# Altium footprint library basic01_resistors.pcblib: 19 footprints (part 1 of 2)
Each footprint in its own frame and in the unit in brackets; x right, y up, seen from the top. Pads: shape width x height; smd on the part's side, far side on the other; paste and mask are expansions set on the pad; w line width, h text height; cw(c..) or ccw(c..) is an arc to the next point about the centre after c.
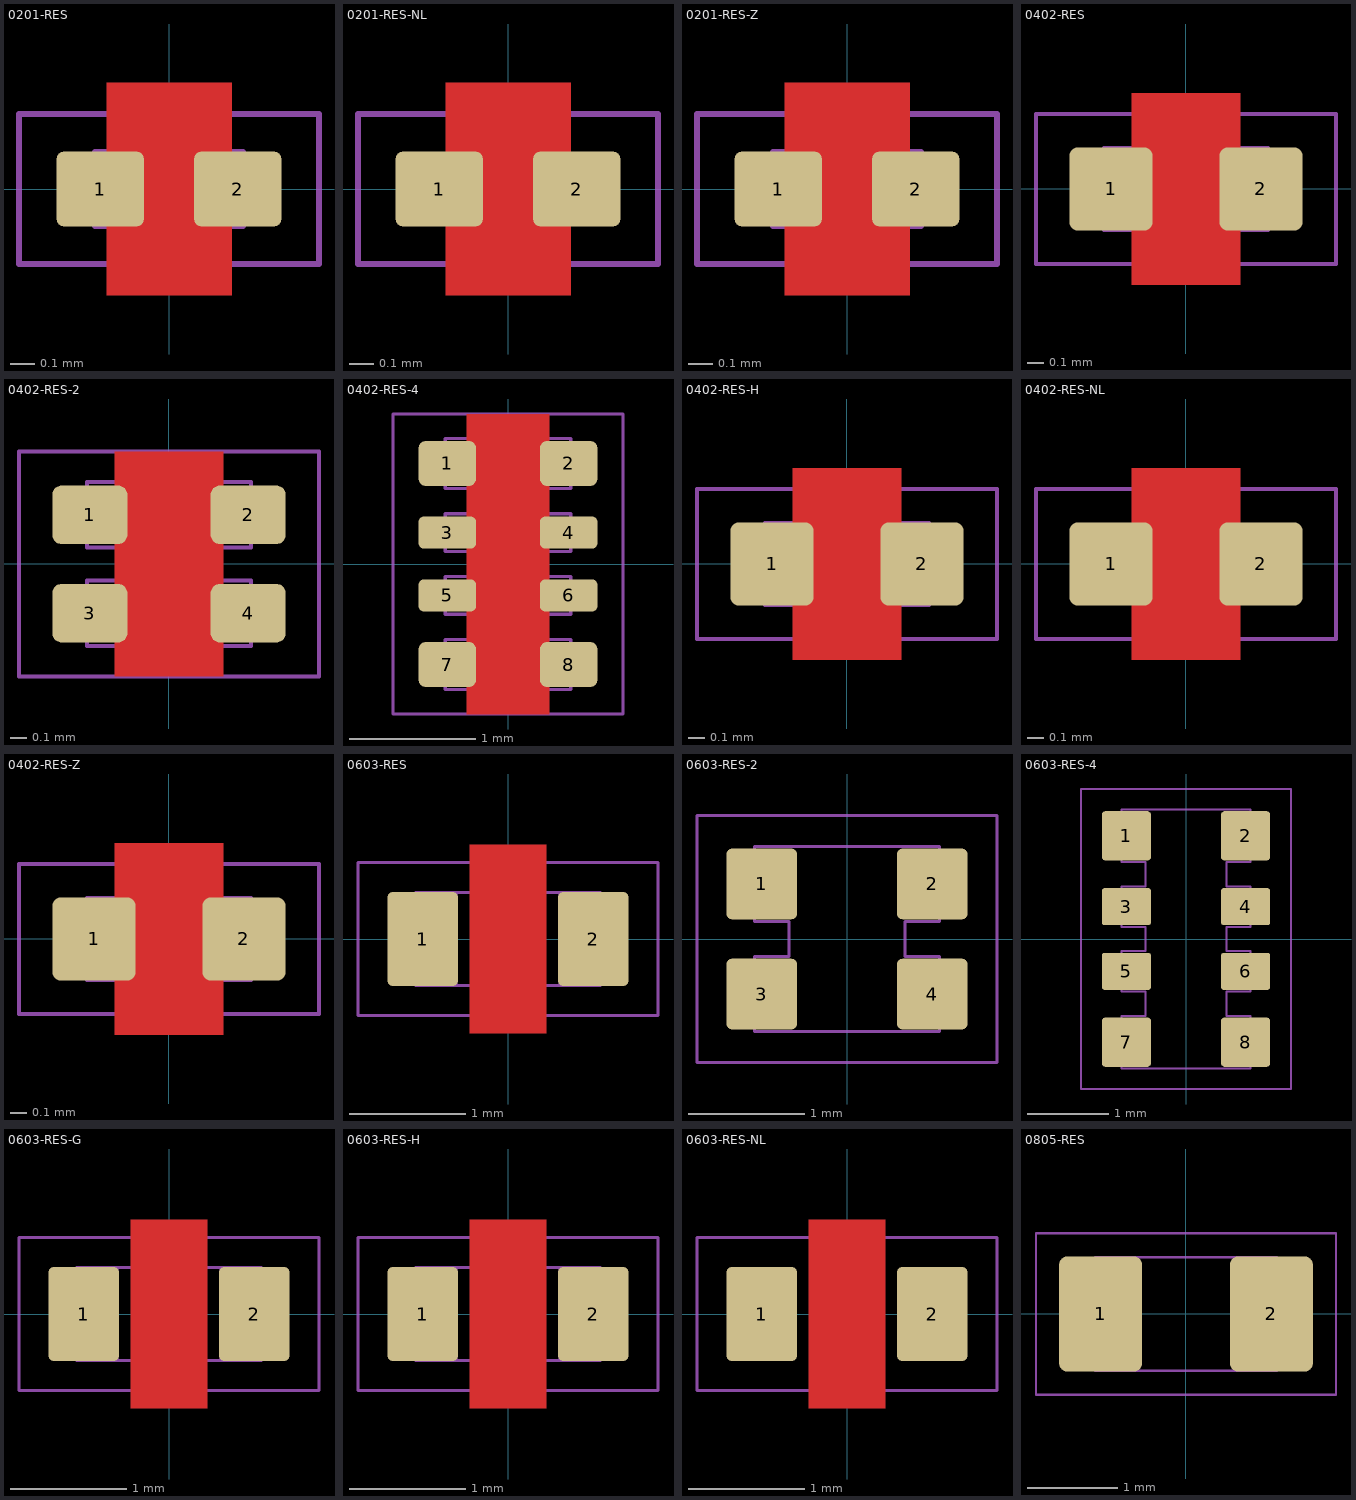
[diagram p0: the footprints below, top view; thin cyan lines are the x and y axes]

## 0201-RES [mil] "Resistor, 0201, 5% / 1%"
pads (2):
  rrect20% 14x12 smd paste+0 mask+2: 1(-11,0) 2(11,0)
Top Layer:
  pour cut-out: -10,-17 -10,17 10,17 10,-17
Top Solder:
  rectangle: -10,-8 10,8
  rectangle: -6,-13 6,13
Mechanical 15:
  lines w1: -24,-12 -24,12 24,12 24,-12 -24,-12
Mechanical 16:
  lines w1: -7.87,-5.91 -7.87,5.91 ; 7.87,-5.91 7.87,5.91 ; -11.81,-5.91 11.81,-5.91 11.81,5.91 -11.81,5.91 -11.81,-5.91
3D body: height 9.1, standoff 0, extent -12,-5 -8,5
3D body: height 8.8, standoff 0.2, extent -11.81,-5.91 11.81,5.91
3D body: height 9, standoff 8.8, extent -11.81,-5.91 11.81,5.91
3D body: height 9.1, standoff 0, extent 8,-5 12,5

## 0201-RES-NL [mil] "Resistor, 0201, NO LOAD"
pads (2):
  rrect20% 14x12 smd paste-20 mask+2: 1(-11,0) 2(11,0)
Top Layer:
  pour cut-out: -10,-17 -10,17 10,17 10,-17
Top Solder:
  rectangle: -10,-8 10,8
  rectangle: -6,-13 6,13
Mechanical 15:
  lines w1: -24,-12 -24,12 24,12 24,-12 -24,-12

## 0201-RES-Z [mil] "Resistor, 0201, 0R"
pads (2):
  rrect20% 14x12 smd paste+0 mask+2: 1(-11,0) 2(11,0)
Top Layer:
  pour cut-out: -10,-17 -10,17 10,17 10,-17
Top Solder:
  rectangle: -6,-13 6,13
  rectangle: -10,-8 10,8
Mechanical 15:
  lines w1: -24,-12 24,-12 24,12 -24,12 -24,-12
Mechanical 16:
  lines w1: -7.87,-5.91 -7.87,5.91 ; 7.87,-5.91 7.87,5.91 ; -11.81,-5.91 -11.81,5.91 11.81,5.91 11.81,-5.91 -11.81,-5.91
3D body: height 9.1, standoff 0, extent 8,-5 12,5
3D body: height 9, standoff 8.8, extent -11.81,-5.91 11.81,5.91
3D body: height 8.8, standoff 0.2, extent -11.81,-5.91 11.81,5.91
3D body: height 9.1, standoff 0, extent -12,-5 -8,5

## 0402-RES [mil] "Resistor, 0402, 5%"
pads (2):
  rrect20% 20x20 smd mask+2: 1(-18,0) 2(18,0)
Top Layer:
  pour cut-out: -13,23 13,23 13,-23 -13,-23
Top Solder:
  rectangle: -8,-18 8,18
  rectangle: -16,-12 16,12
Mechanical 15:
  lines w1: -36,-18 36,-18 36,18 -36,18 -36,-18
Mechanical 16:
  lines w1: -11.81,-9.84 -11.81,9.84 ; 11.81,-9.84 11.81,9.84 ; -19.68,-9.84 -19.68,9.84 19.68,9.84 19.68,-9.84 -19.68,-9.84
3D body: height 9.8, standoff 0.2, extent -19.68,-9.84 19.68,9.84
3D body: height 10, standoff 9.8, extent -19.68,-9.84 19.68,9.84
3D body: height 10.1, standoff 0, extent 12,-9 20,9
3D body: height 10.1, standoff 0, extent -20,-9 -12,9

## 0402-RES-2 [mil]
pads (4):
  rrect30% 18x14 smd mask+2: 1(-19,11.81) 2(19,11.81) 3(-19,-11.81) 4(19,-11.81)
Top Layer:
  pour cut-out: -13,27 13,27 13,-27 -13,-27
Top Solder:
  rectangle: -10,-11.81 10,11.81
Mechanical 15:
  lines w1: -36,-27 -36,27 36,27 36,-27 -36,-27
Mechanical 16:
  lines w1: -19.68,-19.69 -19.68,-3.94 -9.84,-3.94 -9.84,3.94 -19.68,3.94 -19.68,19.69 19.68,19.69 19.68,3.94 9.84,3.94 9.84,-3.94 19.68,-3.94 19.68,-19.69 -19.68,-19.69
3D body: height 13.9, standoff 0.1, extent -19.68,-19.69 19.68,19.69
3D body: height 15.2, standoff 13.9, extent -8,-19.69 8,19.69
3D body: height 14.5, standoff 0, extent 7.19,4.81 20.18,18.81
3D body: height 14.5, standoff 0, extent -20.18,4.81 -7.19,18.81
3D body: height 14.5, standoff 0, extent 7.19,-18.81 20.18,-4.81
3D body: height 14.5, standoff 0, extent -20.18,-18.81 -7.19,-4.81

## 0402-RES-4 [mil]
pads (8):
  rrect30% 18x14 smd mask+2: 1(-19,31.5) 2(19,31.5) 7(-19,-31.5) 8(19,-31.5)
  rrect30% 18x10 smd mask+2: 3(-19,9.84) 4(19,9.84) 5(-19,-9.84) 6(19,-9.84)
Top Layer:
  pour cut-out: -13,47 13,47 13,-47 -13,-47
Top Solder:
  rectangle: -10,-16 10,16
Mechanical 15:
  lines w1: -36,-47 -36,47 36,47 36,-47 -36,-47
Mechanical 16:
  lines w1: -19.68,-39.37 -19.68,-23.62 -9.84,-23.62 -9.84,-15.75 -19.68,-15.75 -19.68,-3.94 -9.84,-3.94 -9.84,3.94 -19.68,3.94 -19.68,15.75 -9.84,15.75 -9.84,23.62 -19.68,23.62 -19.68,39.37 19.68,39.37 19.68,23.62 9.84,23.62 9.84,15.75 19.68,15.75 19.68,3.94 9.84,3.94 9.84,-3.94 19.68,-3.94 19.68,-15.75 9.84,-15.75 9.84,-23.62 19.68,-23.62 19.68,-39.37 -19.68,-39.37
3D body: height 14.5, standoff 0, extent 7.19,24.5 20.18,38.5
3D body: height 14.5, standoff 0, extent -20.18,24.5 -7.19,38.5
3D body: height 14.5, standoff 0, extent 7.19,-38.5 20.18,-24.5
3D body: height 14.5, standoff 0, extent -20.18,-38.5 -7.19,-24.5
3D body: height 14.5, standoff 0, extent 7.19,4.84 20.18,14.84
3D body: height 14.5, standoff 0, extent 7.19,-14.84 20.18,-4.84
3D body: height 14.5, standoff 0, extent -20.18,-14.84 -7.19,-4.84
3D body: height 15.2, standoff 13.9, extent -8,-39 8,39
3D body: height 13.9, standoff 0.1, extent -19.68,-39.37 19.68,39.37
3D body: height 14.5, standoff 0, extent -20.18,4.84 -7.19,14.84

## 0402-RES-H [mil] "Resistor, 0402, 1%"
pads (2):
  rrect20% 20x20 smd mask+2: 1(-18,0) 2(18,0)
Top Layer:
  pour cut-out: -13,23 13,23 13,-23 -13,-23
Top Solder:
  rectangle: -16,-12 16,12
  rectangle: -8,-18 8,18
Mechanical 15:
  lines w1: -36,-18 36,-18 36,18 -36,18 -36,-18
Mechanical 16:
  lines w1: -11.81,-9.84 -11.81,9.84 ; 11.81,-9.84 11.81,9.84 ; -19.68,-9.84 -19.68,9.84 19.68,9.84 19.68,-9.84 -19.68,-9.84
3D body: height 9.8, standoff 0.2, extent -19.68,-9.84 19.68,9.84
3D body: height 10, standoff 9.8, extent -19.68,-9.84 19.68,9.84
3D body: height 10.1, standoff 0, extent 12,-9 20,9
3D body: height 10.1, standoff 0, extent -20,-9 -12,9

## 0402-RES-NL [mil] "Resistor, 0402, NO LOAD"
pads (2):
  rrect20% 20x20 smd paste-20 mask+2: 1(-18,0) 2(18,0)
Top Layer:
  pour cut-out: -13,23 13,23 13,-23 -13,-23
Top Solder:
  rectangle: -8,-18 8,18
  rectangle: -16,-12 16,12
Mechanical 15:
  lines w1: -36,-18 36,-18 36,18 -36,18 -36,-18

## 0402-RES-Z [mil] "Resistor, 0402, 0R"
pads (2):
  rrect20% 20x20 smd mask+2: 1(-18,0) 2(18,0)
Top Layer:
  pour cut-out: -13,23 13,23 13,-23 -13,-23
Top Solder:
  rectangle: -8,-18 8,18
  rectangle: -16,-12 16,12
Mechanical 15:
  lines w1: -36,-18 -36,18 36,18 36,-18 -36,-18
Mechanical 16:
  lines w1: -11.81,-9.84 -11.81,9.84 ; 11.81,-9.84 11.81,9.84 ; -19.68,-9.84 19.68,-9.84 19.68,9.84 -19.68,9.84 -19.68,-9.84
3D body: height 10.1, standoff 0, extent -20,-9 -12,9
3D body: height 10.1, standoff 0, extent 12,-9 20,9
3D body: height 10, standoff 9.8, extent -19.68,-9.84 19.68,9.84
3D body: height 9.8, standoff 0.2, extent -19.68,-9.84 19.68,9.84

## 0603-RES [mil] "Resistor, 0603, 5%"
pads (2):
  rrect15% 24x32 smd paste-2 mask+2: 1(-29,0) 2(29,0)
Top Layer:
  pour cut-out: -13,32 13,32 13,-32 -13,-32
Top Solder:
  rectangle: -8,-27 8,27
Mechanical 15:
  lines w1: -51,-26 51,-26 51,26 -51,26 -51,-26
Mechanical 16:
  lines w1: -17.72,-15.75 -17.72,15.75 ; 17.72,-15.75 17.72,15.75 ; -31.5,-15.75 -31.5,15.75 31.5,15.75 31.5,-15.75 -31.5,-15.75
3D body: height 19, standoff 0, extent 18,-15 32,15
3D body: height 17, standoff 0.2, extent -31.5,-15.75 31.5,15.75
3D body: height 18, standoff 17, extent -31.5,-15.75 31.5,15.75
3D body: height 19, standoff 0, extent -32,-15 -18,15

## 0603-RES-2 [mil]
pads (4):
  rrect15% 24x24 smd mask+2: 1(-29,18.7) 2(29,18.7) 3(-29,-18.7) 4(29,-18.7)
Mechanical 15:
  lines w1: -51,-42 51,-42 51,42 -51,42 -51,-42
Mechanical 16:
  lines w1: -31.5,-31.5 31.5,-31.5 31.5,-5.91 19.69,-5.91 19.69,5.91 31.5,5.91 31.5,31.5 -31.5,31.5 -31.5,5.91 -19.69,5.91 -19.69,-5.91 -31.5,-5.91 -31.5,-31.5
3D body: height 21, standoff 0, extent 15.93,6.74 31,30.5
3D body: height 21, standoff 0, extent -31,6.74 -15.93,30.5
3D body: height 21, standoff 0, extent -31,-30.5 -15.93,-6.74
3D body: height 21, standoff 0, extent 15.93,-30.5 31,-6.74
3D body: height 20.5, standoff 20, extent -19.69,-31.5 19.69,31.5
3D body: height 20, standoff 1, extent -19.69,-31.5 19.69,31.5

## 0603-RES-4 [mil]
pads (8):
  rrect15% 24x24 smd mask+2: 1(-29,50.2) 2(29,50.2) 7(-29,-50.2) 8(29,-50.2)
  rrect15% 24x18 smd mask+2: 3(-29,15.75) 4(29,15.75) 5(-29,-15.75) 6(29,-15.75)
Mechanical 15:
  lines w1: -51,-73 -51,73 51,73 51,-73 -51,-73
Mechanical 16:
  lines w1: -31.5,-62.99 -31.5,-37.4 -19.69,-37.4 -19.69,-25.59 -31.5,-25.59 -31.5,-5.91 -19.69,-5.91 -19.69,5.91 -31.5,5.91 -31.5,25.59 -19.69,25.59 -19.69,37.4 -31.5,37.4 -31.5,62.99 31.5,62.99 31.5,37.4 19.69,37.4 19.69,25.59 31.5,25.59 31.5,5.91 19.69,5.91 19.69,-5.91 31.5,-5.91 31.5,-25.59 19.69,-25.59 19.69,-37.4 31.5,-37.4 31.5,-62.99 -31.5,-62.99
3D body: height 20.5, standoff 20, extent -19.68,-62.99 19.68,62.99
3D body: height 20, standoff 1, extent -19.68,-62.99 19.68,62.99
3D body: height 21, standoff 0, extent -31,38.24 -15.93,62
3D body: height 21, standoff 0, extent -30.93,6.74 -15.93,24.74
3D body: height 21, standoff 0, extent -30.93,-24.76 -15.93,-6.76
3D body: height 21, standoff 0, extent 15.93,-24.74 30.93,-6.74
3D body: height 21, standoff 0, extent 15.93,6.76 30.93,24.76
3D body: height 21, standoff 0, extent 15.93,-62 31,-38.24
3D body: height 21, standoff 0, extent -31,-62 -15.93,-38.24
3D body: height 21, standoff 0, extent 15.93,38.24 31,62

## 0603-RES-G [mil] "Resistor, 0603, 1%, Low ppm"
pads (2):
  rrect15% 24x32 smd paste-2 mask+2: 1(-29,0) 2(29,0)
Top Layer:
  pour cut-out: -13,32 13,32 13,-32 -13,-32
Top Solder:
  rectangle: -8,-27 8,27
Mechanical 15:
  lines w1: -51,-26 51,-26 51,26 -51,26 -51,-26
Mechanical 16:
  lines w1: -17.72,-15.75 -17.72,15.75 ; 17.72,-15.75 17.72,15.75 ; -31.5,-15.75 -31.5,15.75 31.5,15.75 31.5,-15.75 -31.5,-15.75
3D body: height 19, standoff 0, extent 18,-15 32,15
3D body: height 17, standoff 0.2, extent -31.5,-15.75 31.5,15.75
3D body: height 18, standoff 17, extent -31.5,-15.75 31.5,15.75
3D body: height 19, standoff 0, extent -32,-15 -18,15

## 0603-RES-H [mil] "Resistor, 0603, 1%"
pads (2):
  rrect15% 24x32 smd paste-2 mask+2: 1(-29,0) 2(29,0)
Top Layer:
  pour cut-out: -13,32 13,32 13,-32 -13,-32
Top Solder:
  rectangle: -8,-27 8,27
Mechanical 15:
  lines w1: -51,-26 51,-26 51,26 -51,26 -51,-26
Mechanical 16:
  lines w1: -17.72,-15.75 -17.72,15.75 ; 17.72,-15.75 17.72,15.75 ; -31.5,-15.75 -31.5,15.75 31.5,15.75 31.5,-15.75 -31.5,-15.75
3D body: height 19, standoff 0, extent 18,-15 32,15
3D body: height 17, standoff 0.2, extent -31.5,-15.75 31.5,15.75
3D body: height 18, standoff 17, extent -31.5,-15.75 31.5,15.75
3D body: height 19, standoff 0, extent -32,-15 -18,15

## 0603-RES-NL [mil] "Resistor, 0603, NO LOAD"
pads (2):
  rrect15% 24x32 smd paste-2 mask+2: 1(-29,0) 2(29,0)
Top Layer:
  pour cut-out: -13,32 13,32 13,-32 -13,-32
Top Solder:
  rectangle: -8,-27 8,27
Mechanical 15:
  lines w1: -51,-26 51,-26 51,26 -51,26 -51,-26

## 0805-RES [mil] "Resistor, 0805, 5%"
pads (2):
  rrect20% 36x50 smd paste-3 mask+2: 1(-37,0) 2(37,0)
Mechanical 15:
  lines w1: -65,-35 -65,35 65,35 65,-35 -65,-35
Mechanical 16:
  lines w1: -23.62,-24.61 -23.62,24.61 ; 23.62,-24.61 23.62,24.61 ; -39.37,-24.61 -39.37,24.61 39.37,24.61 39.37,-24.61 -39.37,-24.61
3D body: height 21, standoff 0, extent 23,-24 39,24
3D body: height 19, standoff 1, extent -38.37,-24.61 38.37,24.61
3D body: height 20, standoff 19, extent -38.37,-24.61 38.37,24.61
3D body: height 21, standoff 0, extent -39,-24 -23,24